# EAGLE library part TPS6303X (library dawidkulpa_dev)
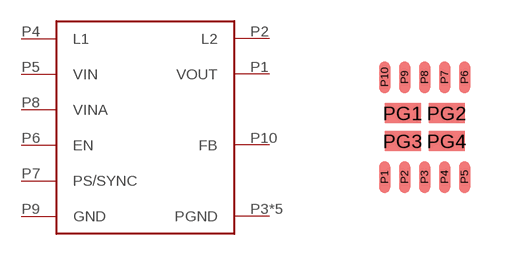
[diagram p14: symbol with the pads of VSON10; footprint VSON10]

Designator prefix -

## TPS6303X  [VSON10]
P1  VOUT
P2  L2
P3  PGND
P4  L1
P5  VIN
P6  EN
P7  PS/SYNC
P8  VINA
P9  GND
P10  FB
PG1  PGND
PG2  PGND
PG3  PGND
PG4  PGND

## Footprint VSON10 (pad centres in mm)
smd 0.28 x 0.8: P1 -1,-1.25; P2 -0.5,-1.25; P3 0,-1.25; P4 0.5,-1.25; P5 1,-1.25; P6 1,1.25; P7 0.5,1.25; P8 0,1.25; P9 -0.5,1.25; P10 -1,1.25
smd 0.9 x 0.5: PG1 -0.55,0.35; PG2 0.55,0.35; PG3 -0.55,-0.35; PG4 0.55,-0.35